# Altium schematic symbol library 7M-12.000MAAJ-T.SchLib: 1 symbol
Pins are listed as number, name and electrical type; pins without a type are passive.

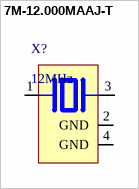
[diagram p0: symbol 7M-12.000MAAJ-T]

## 7M-12.000MAAJ-T
designator X?, comment 12MHz
CRYSTAL 12.0000MHZ 18PF SMD; Manufacturer 1: TXC; Manufacturer Part Number 1: 7M-12.000MAAJ-T; ESR (Equivalent Series Resistance): 80Ω; Frequency Stability: 30ppm; Frequency Tolerance: 0.003%; Supplier 1: DigiKey; Stock 1: 8397; Pricing 1: 3000=0.54592, 6000=0.52337, 9000=0.51063, 15000=0.49502 (USD); RoHS: Compliant; Case/Package: SMD/SMT; China RoHS: Compliant; Country of Origin: Mainland China; Depth: 2.5mm; Frequency: 12MHz; Height: 800µm; Harmonized Tariff Schedule (HTS) Code: 8541.60.00.50; Introduction Date: 2009-02-20; Lead Free: Lead Free; Length: 3.2mm; Lifecycle Status: Production; Load Capacitance: 18pF; Max Operating Temperature: 70°C; Min Operating Temperature: -20°C; Mounting Technology: Surface Mount; Pins: 4; Packaging: Tape & Reel; REACH SVHC: Unaffected; Schedule B: 8541600080, 8541600080|8541600080|8541600080|8541600080|8541600080; ESR: 80Ω; Termination: SMD/SMT; Tolerance: 0.003%; Width: 2.4892mm; ComponentLink1URL: https://datasheet.octopart.com:443/7M-12.000MAAJ-T-TXC-datasheet-175949319.pdf?src-supplier=Newark; ComponentLink1Description: https://datasheet.octopart.com:443/7M-12.000MAAJ-T-TXC-datasheet-175949319.pdf?src-supplier=Newark; ComponentLink2URL: https://datasheet.octopart.com:443/7M-12.000MAAJ-T-TXC-datasheet-142346318.pdf?src-supplier=TME; ComponentLink2Description: https://datasheet.octopart.com:443/7M-12.000MAAJ-T-TXC-datasheet-142346318.pdf?src-supplier=TME; ComponentLink3URL: https://datasheet.octopart.com:443/7M-12.000MAAJ-T-TXC-datasheet-24897103.pdf?src-supplier=ODG+(Origin+Data+Global); ComponentLink3Description: https://datasheet.octopart.com:443/7M-12.000MAAJ-T-TXC-datasheet-24897103.pdf?src-supplier=ODG+(Origin+Data+Global); ComponentLink4URL: https://datasheet.octopart.com:443/7M-12.000MAAJ-T-TXC-datasheet-10340792.pdf?src-supplier=element14+APAC; ComponentLink4Description: https://datasheet.octopart.com:443/7M-12.000MAAJ-T-TXC-datasheet-10340792.pdf?src-supplier=element14+APAC; ComponentLink5URL: https://datasheet.octopart.com:443/7M-12.000MAAJ-T-TXC-datasheet-15207195.pdf?src-supplier=element14+APAC; ComponentLink5Description: https://datasheet.octopart.com:443/7M-12.000MAAJ-T-TXC-datasheet-15207195.pdf?src-supplier=element14+APAC; ComponentLink6URL: https://datasheet.octopart.com:443/7M-12.000MAAJ-T-TXC-datasheet-8857452.pdf?src-supplier=Farnell; ComponentLink6Description: https://datasheet.octopart.com:443/7M-12.000MAAJ-T-TXC-datasheet-8857452.pdf?src-supplier=Farnell; ComponentLink7URL: https://datasheet.octopart.com:443/7M-12.000MAAJ-T-TXC-datasheet-10545748.pdf?src-supplier=Farnell; ComponentLink7Description: https://datasheet.octopart.com:443/7M-12.000MAAJ-T-TXC-datasheet-10545748.pdf?src-supplier=Farnell; ComponentLink8URL: https://datasheet.octopart.com:443/7M-12.000MAAJ-T-TXC-datasheet-10379982.pdf?src-supplier=Farnell; ComponentLink8Description: https://datasheet.octopart.com:443/7M-12.000MAAJ-T-TXC-datasheet-10379982.pdf?src-supplier=Farnell; Supplier Part Number 1: 887-1121-2-ND
footprint OSCCC250X320X70-4N
footprint OSCCC250X320X70-4N
pins: 1, 2 GND (power), 3, 4 GND (power)